# EAGLE library part SHERLOCK-8POS (library hurst)
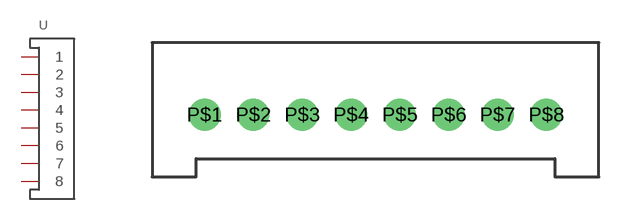
[diagram p2: symbol with the pads of SD-3562-08XX; footprint SD-3562-08XX]

Designator prefix -

## SHERLOCK-8POS  [SD-3562-08XX]
P$1  1
P$2  2
P$3  3
P$4  4
P$5  5
P$6  6
P$7  7
P$8  8

## Footprint SD-3562-08XX (pad centres in mm)
drill 0.8 round: P$1 -7,0; P$2 -5,0; P$3 -3,0; P$4 -1,0; P$5 1,0; P$6 3,0; P$7 5,0; P$8 7,0